# Altium footprint library PcbLib1.PcbLib: 17 footprints (part 2 of 2)
Each footprint in its own frame and in the unit in brackets; x right, y up, seen from the top. Pads: shape width x height; smd on the part's side, far side on the other; paste and mask are expansions set on the pad; w line width, h text height; cw(c..) or ccw(c..) is an arc to the next point about the centre after c.
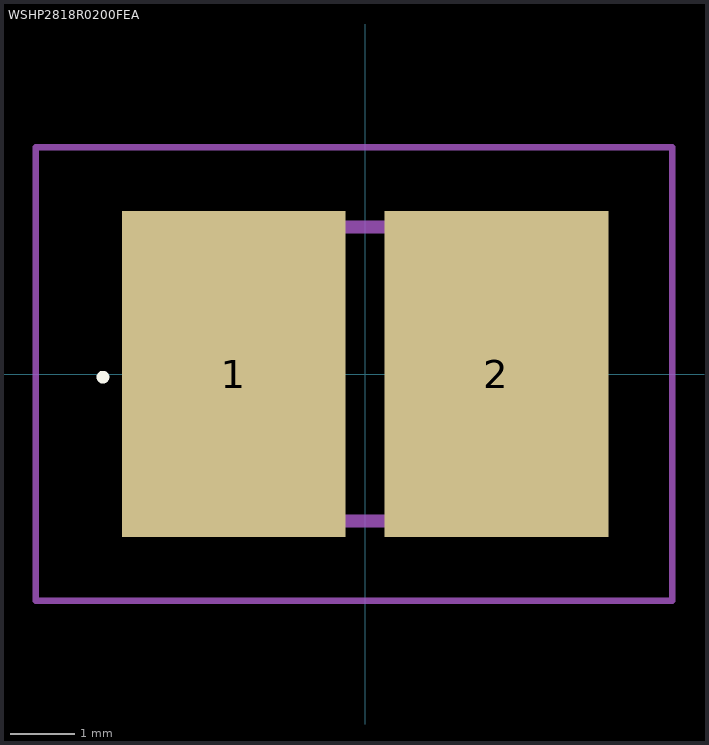
[diagram p1: the footprint, top view; thin cyan lines are the x and y axes]

## WSHP2818R0200FEA [mm]
pads (2):
  rect 3.5x5.1 smd: 1(-2.055,0) 2(2.055,0)
Top Overlay:
  lines w0.1: -4.1,-0.1 ccw(c-4.1,-0.05) -4.1,0 ccw(c-4.1,-0.05) -4.1,-0.1
Mechanical 13:
  lines w0.2: -3.55,-2.3 -3.55,2.3 3.55,2.3 3.55,-2.3 -3.55,-2.3
Mechanical 15:
  lines w0.1: -5.15,-3.55 -5.15,3.55 4.805,3.55 4.805,-3.55 -5.15,-3.55
3D body "WSHP2818R1000FEA.stp": height 1.5, standoff 0, extent -3.718,-2.3 3.378,2.3